# EAGLE library part DSPIC30F3012 (library @Club_Microchip_divers-)
dsPIC Sensor DSC
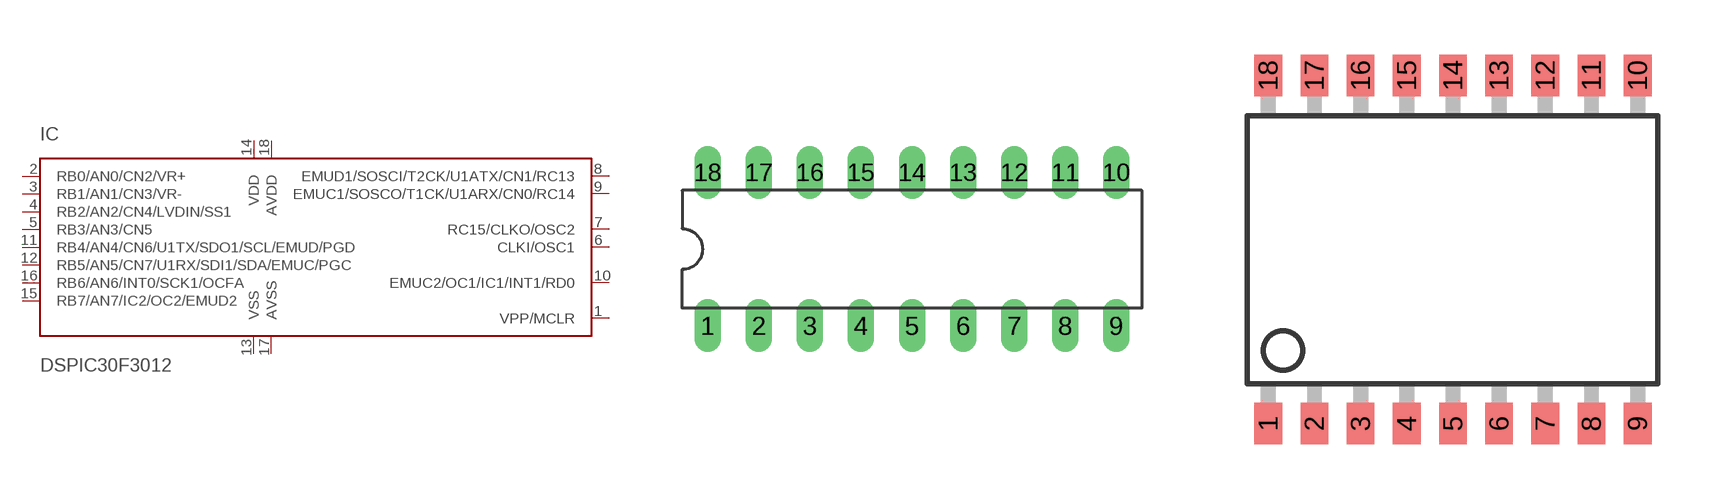
[diagram p18: symbol with the pads of DIL18; footprints DIL18, SO-18W]

Designator prefix IC

## DSPIC30F3012/P  [DIL18]
1  VPP/MCLR  in
2  RB0/AN0/CN2/VR+
3  RB1/AN1/CN3/VR-
4  RB2/AN2/CN4/LVDIN/SS1
5  RB3/AN3/CN5
6  CLKI/OSC1
7  RC15/CLKO/OSC2
8  EMUD1/SOSCI/T2CK/U1ATX/CN1/RC13
9  EMUC1/SOSCO/T1CK/U1ARX/CN0/RC14
10  EMUC2/OC1/IC1/INT1/RD0
11  RB4/AN4/CN6/U1TX/SDO1/SCL/EMUD/PGD
12  RB5/AN5/CN7/U1RX/SDI1/SDA/EMUC/PGC
13  VSS  pwr
14  VDD  pwr
15  RB7/AN7/IC2/OC2/EMUD2
16  RB6/AN6/INT0/SCK1/OCFA
17  AVSS  pwr
18  AVDD  pwr

## DSPIC30F3012/SO  [SO-18W]
Pads as for DIL18

## DSPIC30F3012/ML  [QFN44-8X8]
1  RB5/AN5/CN7/U1RX/SDI1/SDA/EMUC/PGC
4  VDD  pwr
12  RB7/AN7/IC2/OC2/EMUD2
14  RB6/AN6/INT0/SCK1/OCFA
16  AVSS  pwr
17  AVDD  pwr
18  VPP/MCLR  in
19  RB0/AN0/CN2/VR+
20  RB1/AN1/CN3/VR-
23  RB2/AN2/CN4/LVDIN/SS1
25  RB3/AN3/CN5
30  VSS  pwr
32  CLKI/OSC1
33  RC15/CLKO/OSC2
34  EMUD1/SOSCI/T2CK/U1ATX/CN1/RC13
35  EMUC1/SOSCO/T1CK/U1ARX/CN0/RC14
42  EMUC2/OC1/IC1/INT1/RD0
44  RB4/AN4/CN6/U1TX/SDO1/SCL/EMUD/PGD

## Footprint DIL18 (pad centres in mm)
Dual In Line Package
drill 0.813 long: 1 -10.16,-3.81; 2 -7.62,-3.81; 3 -5.08,-3.81; 4 -2.54,-3.81; 5 0,-3.81; 6 2.54,-3.81; 7 5.08,-3.81; 8 7.62,-3.81; 9 10.16,-3.81; 10 10.16,3.81; 11 7.62,3.81; 12 5.08,3.81; 13 2.54,3.81; 14 0,3.81; 15 -2.54,3.81; 16 -5.08,3.81; 17 -7.62,3.81; 18 -10.16,3.81

## Footprint SO-18W (pad centres in mm)
Small Outline Wide Plastic Gull Wing 300-mil body, package type SO
smd 0.762 x 1.143: 1 -5.08,-4.788; 2 -3.81,-4.788; 3 -2.54,-4.788; 4 -1.27,-4.788; 5 0,-4.788; 6 1.27,-4.788; 7 2.54,-4.788; 8 3.81,-4.788; 9 5.08,-4.788; 10 5.08,4.788; 11 3.81,4.788; 12 2.54,4.788; 13 1.27,4.788; 14 0,4.788; 15 -1.27,4.788; 16 -2.54,4.788; 17 -3.81,4.788; 18 -5.08,4.788

## Footprint QFN44-8X8 (pad centres in mm)
Quad Flat No Lead
smd 0.6 x 0.37: 1 3.825,-3.25; 2 3.825,-2.6; 3 3.825,-1.95; 4 3.825,-1.3; 5 3.825,-0.65; 6 3.825,0; 7 3.825,0.65; 8 3.825,1.3; 9 3.825,1.95; 10 3.825,2.6; 11 3.825,3.25; 23 -3.825,3.25; 24 -3.825,2.6; 25 -3.825,1.95; 26 -3.825,1.3; 27 -3.825,0.65; 28 -3.825,0; 29 -3.825,-0.65; 30 -3.825,-1.3; 31 -3.825,-1.95; 32 -3.825,-2.6; 33 -3.825,-3.25
smd 0.37 x 0.6: 12 3.25,3.825; 13 2.6,3.825; 14 1.95,3.825; 15 1.3,3.825; 16 0.65,3.825; 17 0,3.825; 18 -0.65,3.825; 19 -1.3,3.825; 20 -1.95,3.825; 21 -2.6,3.825; 22 -3.25,3.825; 34 -3.25,-3.825; 35 -2.6,-3.825; 36 -1.95,-3.825; 37 -1.3,-3.825; 38 -0.65,-3.825; 39 0,-3.825; 40 0.65,-3.825; 41 1.3,-3.825; 42 1.95,-3.825; 43 2.6,-3.825; 44 3.25,-3.825